# EAGLE library part BLE112 (library BLE112)
The BLE112 is a Bluetooth Smart module targeted for low-power sensors and accessories. It integrates all features required for a Bluetooth Smart application, including Bluetooth radio, software stack, and GATT-based profiles.
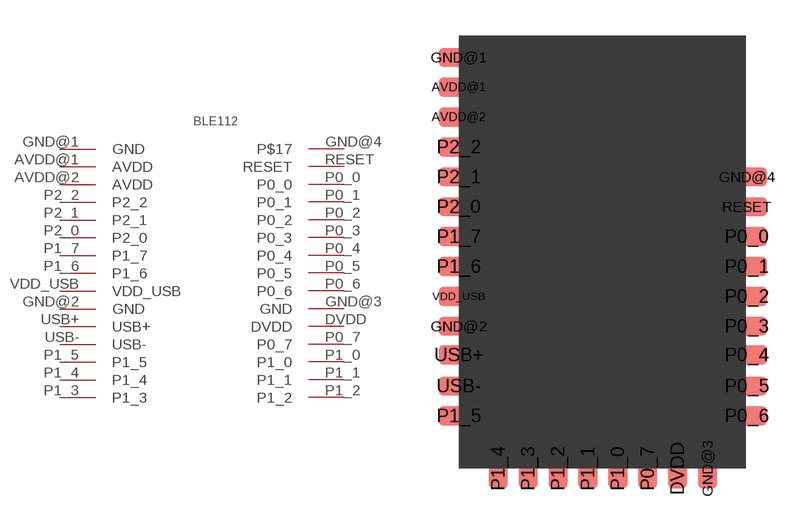
[diagram p0: symbol with the pads of BLE112; footprint BLE112]

Designator prefix -

## BLE112"  [BLE112]
AVDD@1  AVDD
AVDD@2  AVDD
DVDD  DVDD
GND@1  GND  pwr
GND@2  GND  pwr
GND@3  GND  pwr
GND@4  P$17
P0_0  P0_0
P0_1  P0_1
P0_2  P0_2
P0_3  P0_3
P0_4  P0_4
P0_5  P0_5
P0_6  P0_6
P0_7  P0_7
P1_0  P1_0
P1_1  P1_1
P1_2  P1_2
P1_3  P1_3
P1_4  P1_4
P1_5  P1_5
P1_6  P1_6
P1_7  P1_7
P2_0  P2_0
P2_1  P2_1
P2_2  P2_2
RESET  RESET  in
USB+  USB+
USB-  USB-
VDD_USB  VDD_USB  pwr

## Footprint BLE112 (pad centres in mm)
smd 1.676 x 0.813: AVDD@1 0,15.95; AVDD@2 0,14.7; GND@1 0,17.2; GND@2 0,5.95; GND@4 12.05,12.2; P0_0 12.05,9.7; P0_1 12.05,8.45; P0_2 12.05,7.2; P0_3 12.05,5.95; P0_4 12.05,4.75; P0_5 12.05,3.45; P0_6 12.05,2.2; P1_5 0,2.2; P1_6 0,8.45; P1_7 0,9.7; P2_0 0,10.95; P2_1 0,12.2; P2_2 0,13.45; RESET 12.05,10.95; USB+ 0,4.75; USB- 0,3.45; VDD_USB 0,7.2
smd 0.813 x 1.676: DVDD 9.15,0; GND@3 10.4,0; P0_7 7.9,0; P1_0 6.65,0; P1_1 5.4,0; P1_2 4.15,0; P1_3 2.9,0; P1_4 1.65,0